# Altium schematic symbol library kmilo17pet-TI_RS232.SchLib: 1272 symbols (part 25 of 37)
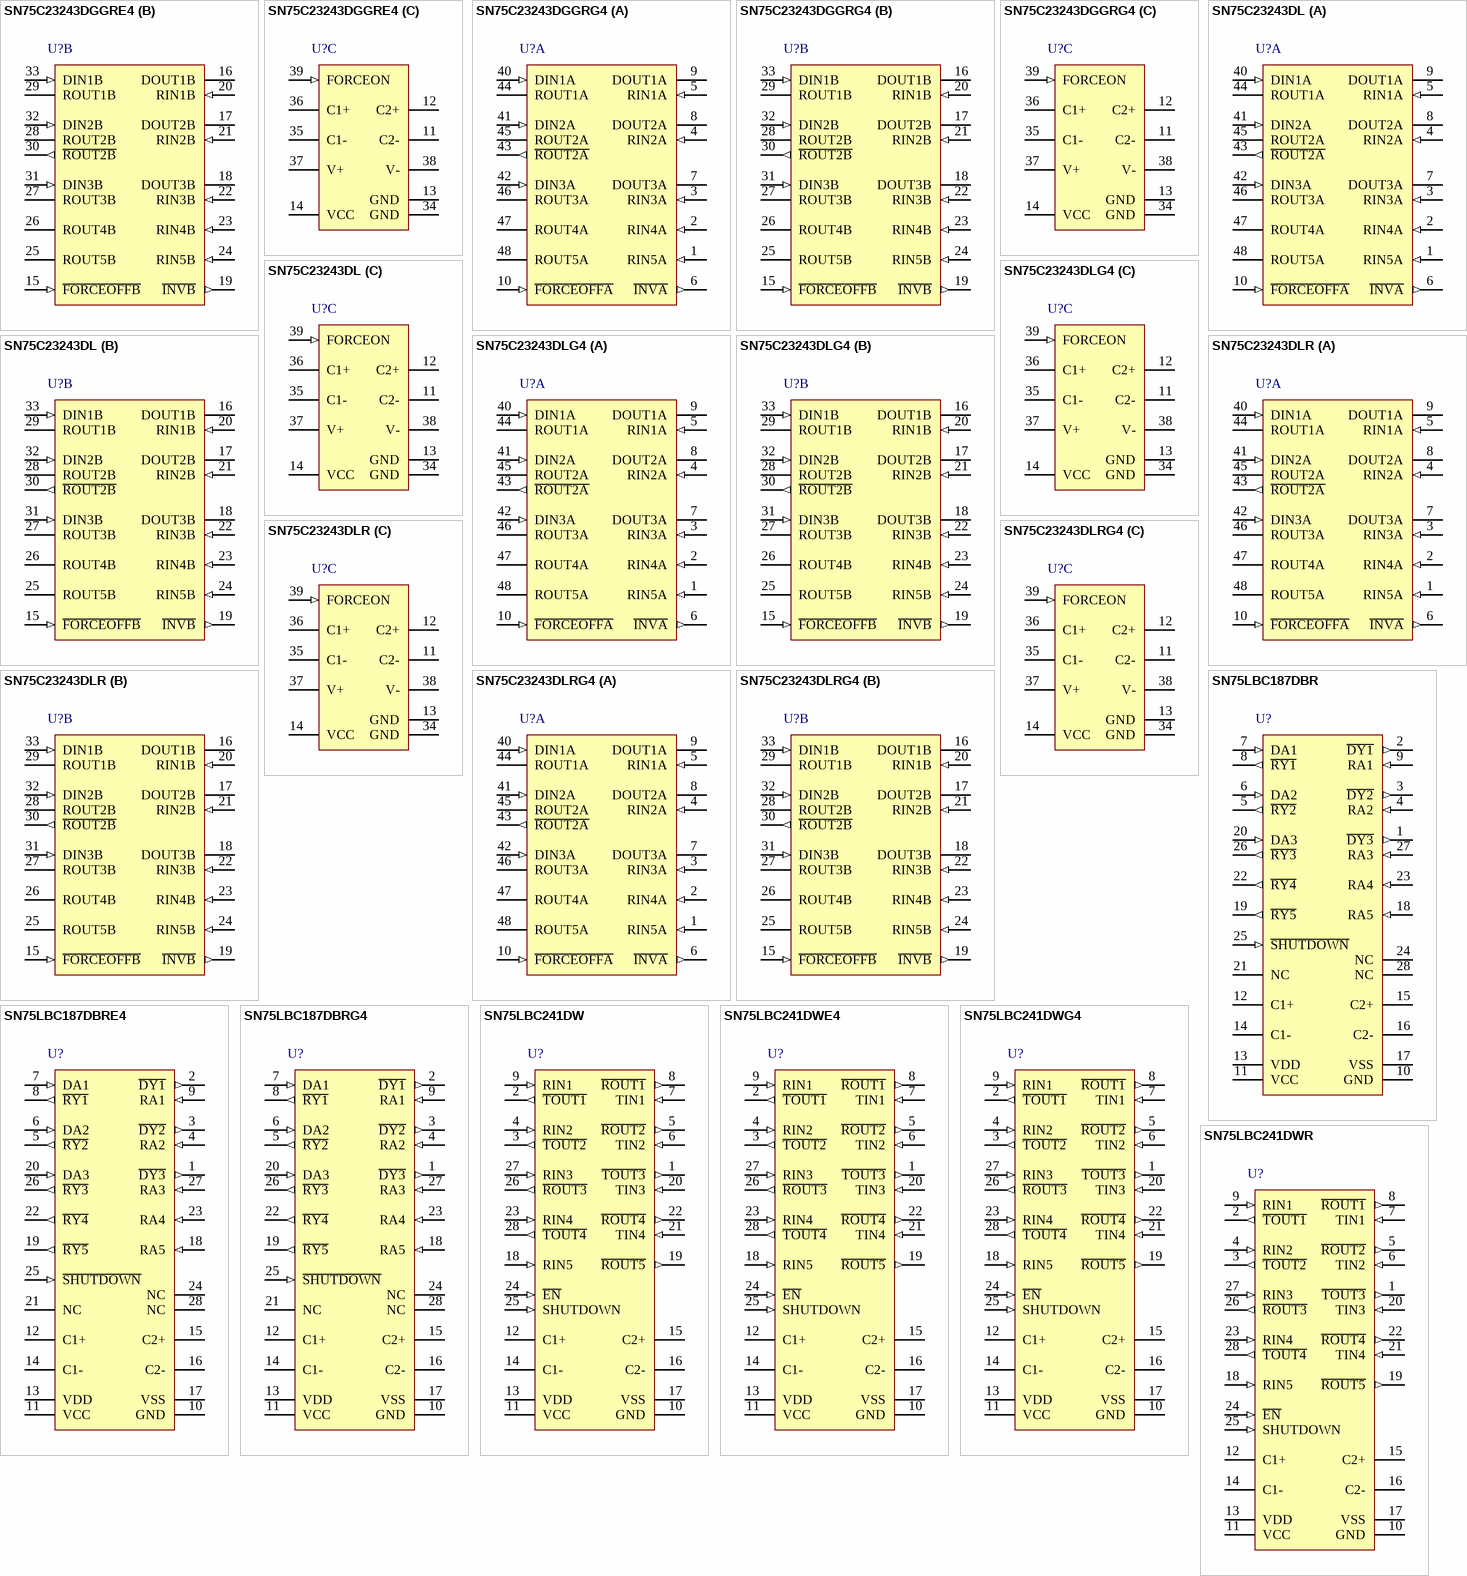
[diagram p78: symbols SN75C23243DGGRE4 to SN75LBC241DWR]

## SN75C23243DLG4
designator U?
3-V to 5.5-V Dual RS-232 Port, 0 to 70 degC, 48-Pin  SSOP (DL),  Green (RoHS & no Sb/Br); Drivers Per Package: 6; Receivers Per Package: 10; Supply Voltage(s)(V): 3.3 or 5.0; ESD HBM(kV): +/-15; ICC(Max)(mA): 2; Single Supply: TRUE; DatasheetVersion: SLLS513A; PackageVersion: revE, Dec-2001; PackageReference: DL48; PackageDescription: 48-Pin Plastic Small Outline Package 0.635 mm Pitch; SubFamily: RS-232; RS-232: TRUE; ComponentLink1Description: Manufacturer URL; ComponentLink1URL: www.ti.com; ComponentLink2Description: Datasheet; ComponentLink2URL: http://www.ti.com/general/docs/lit/getliterature.tsp?genericPartNumber=SN75C23243&fileType=pdf; ComponentLink3Description: Package Specification; ComponentLink3URL: http://www.ti.com/litv/pdf/msso001c
footprint TI-DL48_N (SOP, 48-Leads, Body 15.9x7.5mm, Pitch 0.635mm, IPC Medium Density)
footprint TI-DL48_L (SOP, 48-Leads, Body 15.9x7.5mm, Pitch 0.635mm, IPC High Density)
footprint TI-DL48_M (SOP, 48-Leads, Body 15.9x7.5mm, Pitch 0.635mm, IPC Low Density)
part A pins: 1 RIN5A (in), 2 RIN4A (in), 3 RIN3A (in), 4 RIN2A (in), 5 RIN1A (in), 6 ~{INVA} (out), 7 DOUT3A (hiz), 8 DOUT2A (hiz), 9 DOUT1A (hiz), 10 ~{FORCEOFFA} (in), 40 DIN1A (in), 41 DIN2A (in), 42 DIN3A (in), 43 ~{ROUT2A} (out), 44 ROUT1A (hiz), 45 ROUT2A (hiz), 46 ROUT3A (hiz), 47 ROUT4A (hiz), 48 ROUT5A (hiz)
part B pins: 15 ~{FORCEOFFB} (in), 16 DOUT1B (hiz), 17 DOUT2B (hiz), 18 DOUT3B (hiz), 19 ~{INVB} (out), 20 RIN1B (in), 21 RIN2B (in), 22 RIN3B (in), 23 RIN4B (in), 24 RIN5B (in), 25 ROUT5B (hiz), 26 ROUT4B (hiz), 27 ROUT3B (hiz), 28 ROUT2B (hiz), 29 ROUT1B (hiz), 30 ~{ROUT2B} (out), 31 DIN3B (in), 32 DIN2B (in), 33 DIN1B (in)
part C pins: 11 C2-, 12 C2+, 13 GND (power), 14 VCC (power), 34 GND (power), 35 C1-, 36 C1+, 37 V+ (power), 38 V- (power), 39 FORCEON (in)

## SN75C23243DLR
designator U?
3-V to 5.5-V Dual RS-232 Port, 0 to 70 degC, 48-Pin  SSOP (DL),  Green (RoHS & no Sb/Br); Drivers Per Package: 6; Receivers Per Package: 10; Supply Voltage(s)(V): 3.3 or 5.0; ESD HBM(kV): +/-15; ICC(Max)(mA): 2; Single Supply: TRUE; DatasheetVersion: SLLS513A; PackageVersion: revE, Dec-2001; PackageReference: DL48; PackageDescription: 48-Pin Plastic Small Outline Package 0.635 mm Pitch; SubFamily: RS-232; RS-232: TRUE; ComponentLink1Description: Manufacturer URL; ComponentLink1URL: www.ti.com; ComponentLink2Description: Datasheet; ComponentLink2URL: http://www.ti.com/general/docs/lit/getliterature.tsp?genericPartNumber=SN75C23243&fileType=pdf; ComponentLink3Description: Package Specification; ComponentLink3URL: http://www.ti.com/litv/pdf/msso001c
footprint TI-DL48_N (SOP, 48-Leads, Body 15.9x7.5mm, Pitch 0.635mm, IPC Medium Density)
footprint TI-DL48_L (SOP, 48-Leads, Body 15.9x7.5mm, Pitch 0.635mm, IPC High Density)
footprint TI-DL48_M (SOP, 48-Leads, Body 15.9x7.5mm, Pitch 0.635mm, IPC Low Density)
part A pins: 1 RIN5A (in), 2 RIN4A (in), 3 RIN3A (in), 4 RIN2A (in), 5 RIN1A (in), 6 ~{INVA} (out), 7 DOUT3A (hiz), 8 DOUT2A (hiz), 9 DOUT1A (hiz), 10 ~{FORCEOFFA} (in), 40 DIN1A (in), 41 DIN2A (in), 42 DIN3A (in), 43 ~{ROUT2A} (out), 44 ROUT1A (hiz), 45 ROUT2A (hiz), 46 ROUT3A (hiz), 47 ROUT4A (hiz), 48 ROUT5A (hiz)
part B pins: 15 ~{FORCEOFFB} (in), 16 DOUT1B (hiz), 17 DOUT2B (hiz), 18 DOUT3B (hiz), 19 ~{INVB} (out), 20 RIN1B (in), 21 RIN2B (in), 22 RIN3B (in), 23 RIN4B (in), 24 RIN5B (in), 25 ROUT5B (hiz), 26 ROUT4B (hiz), 27 ROUT3B (hiz), 28 ROUT2B (hiz), 29 ROUT1B (hiz), 30 ~{ROUT2B} (out), 31 DIN3B (in), 32 DIN2B (in), 33 DIN1B (in)
part C pins: 11 C2-, 12 C2+, 13 GND (power), 14 VCC (power), 34 GND (power), 35 C1-, 36 C1+, 37 V+ (power), 38 V- (power), 39 FORCEON (in)

## SN75C23243DLRG4
designator U?
3-V to 5.5-V Dual RS-232 Port, 0 to 70 degC, 48-Pin  SSOP (DL),  Green (RoHS & no Sb/Br); Drivers Per Package: 6; Receivers Per Package: 10; Supply Voltage(s)(V): 3.3 or 5.0; ESD HBM(kV): +/-15; ICC(Max)(mA): 2; Single Supply: TRUE; DatasheetVersion: SLLS513A; PackageVersion: revE, Dec-2001; PackageReference: DL48; PackageDescription: 48-Pin Plastic Small Outline Package 0.635 mm Pitch; SubFamily: RS-232; RS-232: TRUE; ComponentLink1Description: Manufacturer URL; ComponentLink1URL: www.ti.com; ComponentLink2Description: Datasheet; ComponentLink2URL: http://www.ti.com/general/docs/lit/getliterature.tsp?genericPartNumber=SN75C23243&fileType=pdf; ComponentLink3Description: Package Specification; ComponentLink3URL: http://www.ti.com/litv/pdf/msso001c
footprint TI-DL48_N (SOP, 48-Leads, Body 15.9x7.5mm, Pitch 0.635mm, IPC Medium Density)
footprint TI-DL48_L (SOP, 48-Leads, Body 15.9x7.5mm, Pitch 0.635mm, IPC High Density)
footprint TI-DL48_M (SOP, 48-Leads, Body 15.9x7.5mm, Pitch 0.635mm, IPC Low Density)
part A pins: 1 RIN5A (in), 2 RIN4A (in), 3 RIN3A (in), 4 RIN2A (in), 5 RIN1A (in), 6 ~{INVA} (out), 7 DOUT3A (hiz), 8 DOUT2A (hiz), 9 DOUT1A (hiz), 10 ~{FORCEOFFA} (in), 40 DIN1A (in), 41 DIN2A (in), 42 DIN3A (in), 43 ~{ROUT2A} (out), 44 ROUT1A (hiz), 45 ROUT2A (hiz), 46 ROUT3A (hiz), 47 ROUT4A (hiz), 48 ROUT5A (hiz)
part B pins: 15 ~{FORCEOFFB} (in), 16 DOUT1B (hiz), 17 DOUT2B (hiz), 18 DOUT3B (hiz), 19 ~{INVB} (out), 20 RIN1B (in), 21 RIN2B (in), 22 RIN3B (in), 23 RIN4B (in), 24 RIN5B (in), 25 ROUT5B (hiz), 26 ROUT4B (hiz), 27 ROUT3B (hiz), 28 ROUT2B (hiz), 29 ROUT1B (hiz), 30 ~{ROUT2B} (out), 31 DIN3B (in), 32 DIN2B (in), 33 DIN1B (in)
part C pins: 11 C2-, 12 C2+, 13 GND (power), 14 VCC (power), 34 GND (power), 35 C1-, 36 C1+, 37 V+ (power), 38 V- (power), 39 FORCEON (in)

## SN75LBC187DBR
designator U?
Multichannel EIA-232 Driver / Receiver with Charge Pump, 0 to 70 degC, 28-Pin SSOP (DB), Green (RoHS & no Sb/Br); SubFamily: RS-232; Drivers Per Package: 3; Receivers Per Package: 5; ICC(Max)(mA): 30; Single Supply: TRUE; DatasheetVersion: SLLS130C; PackageVersion: revE, Dec-2001; PackageReference: DB28; PackageDescription: 28-Pin Plastic Small Outline Package, 10.2 x 5.3 mm Body, 0.65 mm Pitch; Supply Voltage(s)(V): 5; RS-232: TRUE; ComponentLink1Description: Manufacturer URL; ComponentLink1URL: www.ti.com; ComponentLink2Description: Datasheet; ComponentLink2URL: http://www.ti.com/general/docs/lit/getliterature.tsp?genericPartNumber=SN75LBC187&fileType=pdf; ComponentLink3Description: Package Specification; ComponentLink3URL: http://www.ti.com/litv/pdf/msso002e
footprint TI-DB28_N (SOP, 28-Leads, Body 10.2x5.3mm, Pitch 0.65mm, IPC Medium Density)
footprint TI-DB28_L (SOP, 28-Leads, Body 10.2x5.3mm, Pitch 0.65mm, IPC High Density)
footprint TI-DB28_M (SOP, 28-Leads, Body 10.2x5.3mm, Pitch 0.65mm, IPC Low Density)
pins: 1 ~{DY3} (out), 2 ~{DY1} (out), 3 ~{DY2} (out), 4 RA2 (in), 5 ~{RY2} (out), 6 DA2 (in), 7 DA1 (in), 8 ~{RY1} (out), 9 RA1 (in), 10 GND (power), 11 VCC (power), 12 C1+, 13 VDD (power), 14 C1-, 15 C2+, 16 C2-, 17 VSS (power), 18 RA5 (in), 19 ~{RY5} (out), 20 DA3 (in), 21 NC, 22 ~{RY4} (out), 23 RA4 (in), 24 NC, 25 ~{SHUTDOWN} (in), 26 ~{RY3} (out), 27 RA3 (in), 28 NC

## SN75LBC187DBRE4
designator U?
Multichannel EIA-232 Driver / Receiver with Charge Pump, 0 to 70 degC, 28-Pin SSOP (DB), Green (RoHS & no Sb/Br); SubFamily: RS-232; Drivers Per Package: 3; Receivers Per Package: 5; ICC(Max)(mA): 30; Single Supply: TRUE; DatasheetVersion: SLLS130C; PackageVersion: revE, Dec-2001; PackageReference: DB28; PackageDescription: 28-Pin Plastic Small Outline Package, 10.2 x 5.3 mm Body, 0.65 mm Pitch; Supply Voltage(s)(V): 5; RS-232: TRUE; ComponentLink1Description: Manufacturer URL; ComponentLink1URL: www.ti.com; ComponentLink2Description: Datasheet; ComponentLink2URL: http://www.ti.com/general/docs/lit/getliterature.tsp?genericPartNumber=SN75LBC187&fileType=pdf; ComponentLink3Description: Package Specification; ComponentLink3URL: http://www.ti.com/litv/pdf/msso002e
footprint TI-DB28_N (SOP, 28-Leads, Body 10.2x5.3mm, Pitch 0.65mm, IPC Medium Density)
footprint TI-DB28_L (SOP, 28-Leads, Body 10.2x5.3mm, Pitch 0.65mm, IPC High Density)
footprint TI-DB28_M (SOP, 28-Leads, Body 10.2x5.3mm, Pitch 0.65mm, IPC Low Density)
pins: 1 ~{DY3} (out), 2 ~{DY1} (out), 3 ~{DY2} (out), 4 RA2 (in), 5 ~{RY2} (out), 6 DA2 (in), 7 DA1 (in), 8 ~{RY1} (out), 9 RA1 (in), 10 GND (power), 11 VCC (power), 12 C1+, 13 VDD (power), 14 C1-, 15 C2+, 16 C2-, 17 VSS (power), 18 RA5 (in), 19 ~{RY5} (out), 20 DA3 (in), 21 NC, 22 ~{RY4} (out), 23 RA4 (in), 24 NC, 25 ~{SHUTDOWN} (in), 26 ~{RY3} (out), 27 RA3 (in), 28 NC

## SN75LBC187DBRG4
designator U?
Multichannel EIA-232 Driver / Receiver with Charge Pump, 0 to 70 degC, 28-Pin SSOP (DB), Green (RoHS & no Sb/Br); SubFamily: RS-232; Drivers Per Package: 3; Receivers Per Package: 5; ICC(Max)(mA): 30; Single Supply: TRUE; DatasheetVersion: SLLS130C; PackageVersion: revE, Dec-2001; PackageReference: DB28; PackageDescription: 28-Pin Plastic Small Outline Package, 10.2 x 5.3 mm Body, 0.65 mm Pitch; Supply Voltage(s)(V): 5; RS-232: TRUE; ComponentLink1Description: Manufacturer URL; ComponentLink1URL: www.ti.com; ComponentLink2Description: Datasheet; ComponentLink2URL: http://www.ti.com/general/docs/lit/getliterature.tsp?genericPartNumber=SN75LBC187&fileType=pdf; ComponentLink3Description: Package Specification; ComponentLink3URL: http://www.ti.com/litv/pdf/msso002e
footprint TI-DB28_N (SOP, 28-Leads, Body 10.2x5.3mm, Pitch 0.65mm, IPC Medium Density)
footprint TI-DB28_L (SOP, 28-Leads, Body 10.2x5.3mm, Pitch 0.65mm, IPC High Density)
footprint TI-DB28_M (SOP, 28-Leads, Body 10.2x5.3mm, Pitch 0.65mm, IPC Low Density)
pins: 1 ~{DY3} (out), 2 ~{DY1} (out), 3 ~{DY2} (out), 4 RA2 (in), 5 ~{RY2} (out), 6 DA2 (in), 7 DA1 (in), 8 ~{RY1} (out), 9 RA1 (in), 10 GND (power), 11 VCC (power), 12 C1+, 13 VDD (power), 14 C1-, 15 C2+, 16 C2-, 17 VSS (power), 18 RA5 (in), 19 ~{RY5} (out), 20 DA3 (in), 21 NC, 22 ~{RY4} (out), 23 RA4 (in), 24 NC, 25 ~{SHUTDOWN} (in), 26 ~{RY3} (out), 27 RA3 (in), 28 NC

## SN75LBC241DW
designator U?
Low-Power LinBiCMOS TM  Multiple Driver and Receiver, 0 to 70 degC, 28-Pin SOIC (DW), Green (RoHS & no Sb/Br); SubFamily: RS-232; Drivers Per Package: 4; Receivers Per Package: 5; ICC(Max)(mA): 8; Single Supply: TRUE; DatasheetVersion: SLLS137F; PackageVersion: revG, Jan-2011; PackageReference: DW28; PackageDescription: 28-Pin Plastic Small Outline Integrated Circuit, 17.9 x 7.5 mm, Pitch 1.27 mm Pitch; Supply Voltage(s)(V): 5; RS-232: TRUE; ComponentLink1Description: Manufacturer URL; ComponentLink1URL: www.ti.com; ComponentLink2Description: Datasheet; ComponentLink2URL: http://www.ti.com/general/docs/lit/getliterature.tsp?genericPartNumber=SN75LBC241&fileType=pdf; ComponentLink3Description: Package Specification; ComponentLink3URL: http://www.ti.com/litv/pdf/mpds175a
footprint TI-DW28_N (SOIC, 28-Leads, Body 17.9x7.5mm, Pitch 1.27mm, IPC Medium Density)
footprint TI-DW28_L (SOIC, 28-Leads, Body 17.9x7.5mm, Pitch 1.27mm, IPC High Density)
footprint TI-DW28_M (SOIC, 28-Leads, Body 17.9x7.5mm, Pitch 1.27mm, IPC Low Density)
pins: 1 ~{TOUT3} (out), 2 ~{TOUT1} (out), 3 ~{TOUT2} (out), 4 RIN2 (in), 5 ~{ROUT2} (out), 6 TIN2 (in), 7 TIN1 (in), 8 ~{ROUT1} (out), 9 RIN1 (in), 10 GND (power), 11 VCC (power), 12 C1+, 13 VDD (power), 14 C1-, 15 C2+, 16 C2-, 17 VSS (power), 18 RIN5 (in), 19 ~{ROUT5} (out), 20 TIN3 (in), 21 TIN4 (in), 22 ~{ROUT4} (out), 23 RIN4 (in), 24 ~{EN} (in), 25 SHUTDOWN (in), 26 ~{ROUT3} (out), 27 RIN3 (in), 28 ~{TOUT4} (out)

## SN75LBC241DWE4
designator U?
Low-Power LinBiCMOS TM  Multiple Driver and Receiver, 0 to 70 degC, 28-Pin SOIC (DW), Green (RoHS & no Sb/Br); SubFamily: RS-232; Drivers Per Package: 4; Receivers Per Package: 5; ICC(Max)(mA): 8; Single Supply: TRUE; DatasheetVersion: SLLS137F; PackageVersion: revG, Jan-2011; PackageReference: DW28; PackageDescription: 28-Pin Plastic Small Outline Integrated Circuit, 17.9 x 7.5 mm, Pitch 1.27 mm Pitch; Supply Voltage(s)(V): 5; RS-232: TRUE; ComponentLink1Description: Manufacturer URL; ComponentLink1URL: www.ti.com; ComponentLink2Description: Datasheet; ComponentLink2URL: http://www.ti.com/general/docs/lit/getliterature.tsp?genericPartNumber=SN75LBC241&fileType=pdf; ComponentLink3Description: Package Specification; ComponentLink3URL: http://www.ti.com/litv/pdf/mpds175a
footprint TI-DW28_N (SOIC, 28-Leads, Body 17.9x7.5mm, Pitch 1.27mm, IPC Medium Density)
footprint TI-DW28_L (SOIC, 28-Leads, Body 17.9x7.5mm, Pitch 1.27mm, IPC High Density)
footprint TI-DW28_M (SOIC, 28-Leads, Body 17.9x7.5mm, Pitch 1.27mm, IPC Low Density)
pins: 1 ~{TOUT3} (out), 2 ~{TOUT1} (out), 3 ~{TOUT2} (out), 4 RIN2 (in), 5 ~{ROUT2} (out), 6 TIN2 (in), 7 TIN1 (in), 8 ~{ROUT1} (out), 9 RIN1 (in), 10 GND (power), 11 VCC (power), 12 C1+, 13 VDD (power), 14 C1-, 15 C2+, 16 C2-, 17 VSS (power), 18 RIN5 (in), 19 ~{ROUT5} (out), 20 TIN3 (in), 21 TIN4 (in), 22 ~{ROUT4} (out), 23 RIN4 (in), 24 ~{EN} (in), 25 SHUTDOWN (in), 26 ~{ROUT3} (out), 27 RIN3 (in), 28 ~{TOUT4} (out)

## SN75LBC241DWG4
designator U?
Low-Power LinBiCMOS TM  Multiple Driver and Receiver, 0 to 70 degC, 28-Pin SOIC (DW), Green (RoHS & no Sb/Br); SubFamily: RS-232; Drivers Per Package: 4; Receivers Per Package: 5; ICC(Max)(mA): 8; Single Supply: TRUE; DatasheetVersion: SLLS137F; PackageVersion: revG, Jan-2011; PackageReference: DW28; PackageDescription: 28-Pin Plastic Small Outline Integrated Circuit, 17.9 x 7.5 mm, Pitch 1.27 mm Pitch; Supply Voltage(s)(V): 5; RS-232: TRUE; ComponentLink1Description: Manufacturer URL; ComponentLink1URL: www.ti.com; ComponentLink2Description: Datasheet; ComponentLink2URL: http://www.ti.com/general/docs/lit/getliterature.tsp?genericPartNumber=SN75LBC241&fileType=pdf; ComponentLink3Description: Package Specification; ComponentLink3URL: http://www.ti.com/litv/pdf/mpds175a
footprint TI-DW28_N (SOIC, 28-Leads, Body 17.9x7.5mm, Pitch 1.27mm, IPC Medium Density)
footprint TI-DW28_L (SOIC, 28-Leads, Body 17.9x7.5mm, Pitch 1.27mm, IPC High Density)
footprint TI-DW28_M (SOIC, 28-Leads, Body 17.9x7.5mm, Pitch 1.27mm, IPC Low Density)
pins: 1 ~{TOUT3} (out), 2 ~{TOUT1} (out), 3 ~{TOUT2} (out), 4 RIN2 (in), 5 ~{ROUT2} (out), 6 TIN2 (in), 7 TIN1 (in), 8 ~{ROUT1} (out), 9 RIN1 (in), 10 GND (power), 11 VCC (power), 12 C1+, 13 VDD (power), 14 C1-, 15 C2+, 16 C2-, 17 VSS (power), 18 RIN5 (in), 19 ~{ROUT5} (out), 20 TIN3 (in), 21 TIN4 (in), 22 ~{ROUT4} (out), 23 RIN4 (in), 24 ~{EN} (in), 25 SHUTDOWN (in), 26 ~{ROUT3} (out), 27 RIN3 (in), 28 ~{TOUT4} (out)

## SN75LBC241DWR
designator U?
Low-Power LinBiCMOS TM  Multiple Driver and Receiver, 0 to 70 degC, 28-Pin SOIC (DW), Green (RoHS & no Sb/Br); SubFamily: RS-232; Drivers Per Package: 4; Receivers Per Package: 5; ICC(Max)(mA): 8; Single Supply: TRUE; DatasheetVersion: SLLS137F; PackageVersion: revG, Jan-2011; PackageReference: DW28; PackageDescription: 28-Pin Plastic Small Outline Integrated Circuit, 17.9 x 7.5 mm, Pitch 1.27 mm Pitch; Supply Voltage(s)(V): 5; RS-232: TRUE; ComponentLink1Description: Manufacturer URL; ComponentLink1URL: www.ti.com; ComponentLink2Description: Datasheet; ComponentLink2URL: http://www.ti.com/general/docs/lit/getliterature.tsp?genericPartNumber=SN75LBC241&fileType=pdf; ComponentLink3Description: Package Specification; ComponentLink3URL: http://www.ti.com/litv/pdf/mpds175a
footprint TI-DW28_N (SOIC, 28-Leads, Body 17.9x7.5mm, Pitch 1.27mm, IPC Medium Density)
footprint TI-DW28_L (SOIC, 28-Leads, Body 17.9x7.5mm, Pitch 1.27mm, IPC High Density)
footprint TI-DW28_M (SOIC, 28-Leads, Body 17.9x7.5mm, Pitch 1.27mm, IPC Low Density)
pins: 1 ~{TOUT3} (out), 2 ~{TOUT1} (out), 3 ~{TOUT2} (out), 4 RIN2 (in), 5 ~{ROUT2} (out), 6 TIN2 (in), 7 TIN1 (in), 8 ~{ROUT1} (out), 9 RIN1 (in), 10 GND (power), 11 VCC (power), 12 C1+, 13 VDD (power), 14 C1-, 15 C2+, 16 C2-, 17 VSS (power), 18 RIN5 (in), 19 ~{ROUT5} (out), 20 TIN3 (in), 21 TIN4 (in), 22 ~{ROUT4} (out), 23 RIN4 (in), 24 ~{EN} (in), 25 SHUTDOWN (in), 26 ~{ROUT3} (out), 27 RIN3 (in), 28 ~{TOUT4} (out)

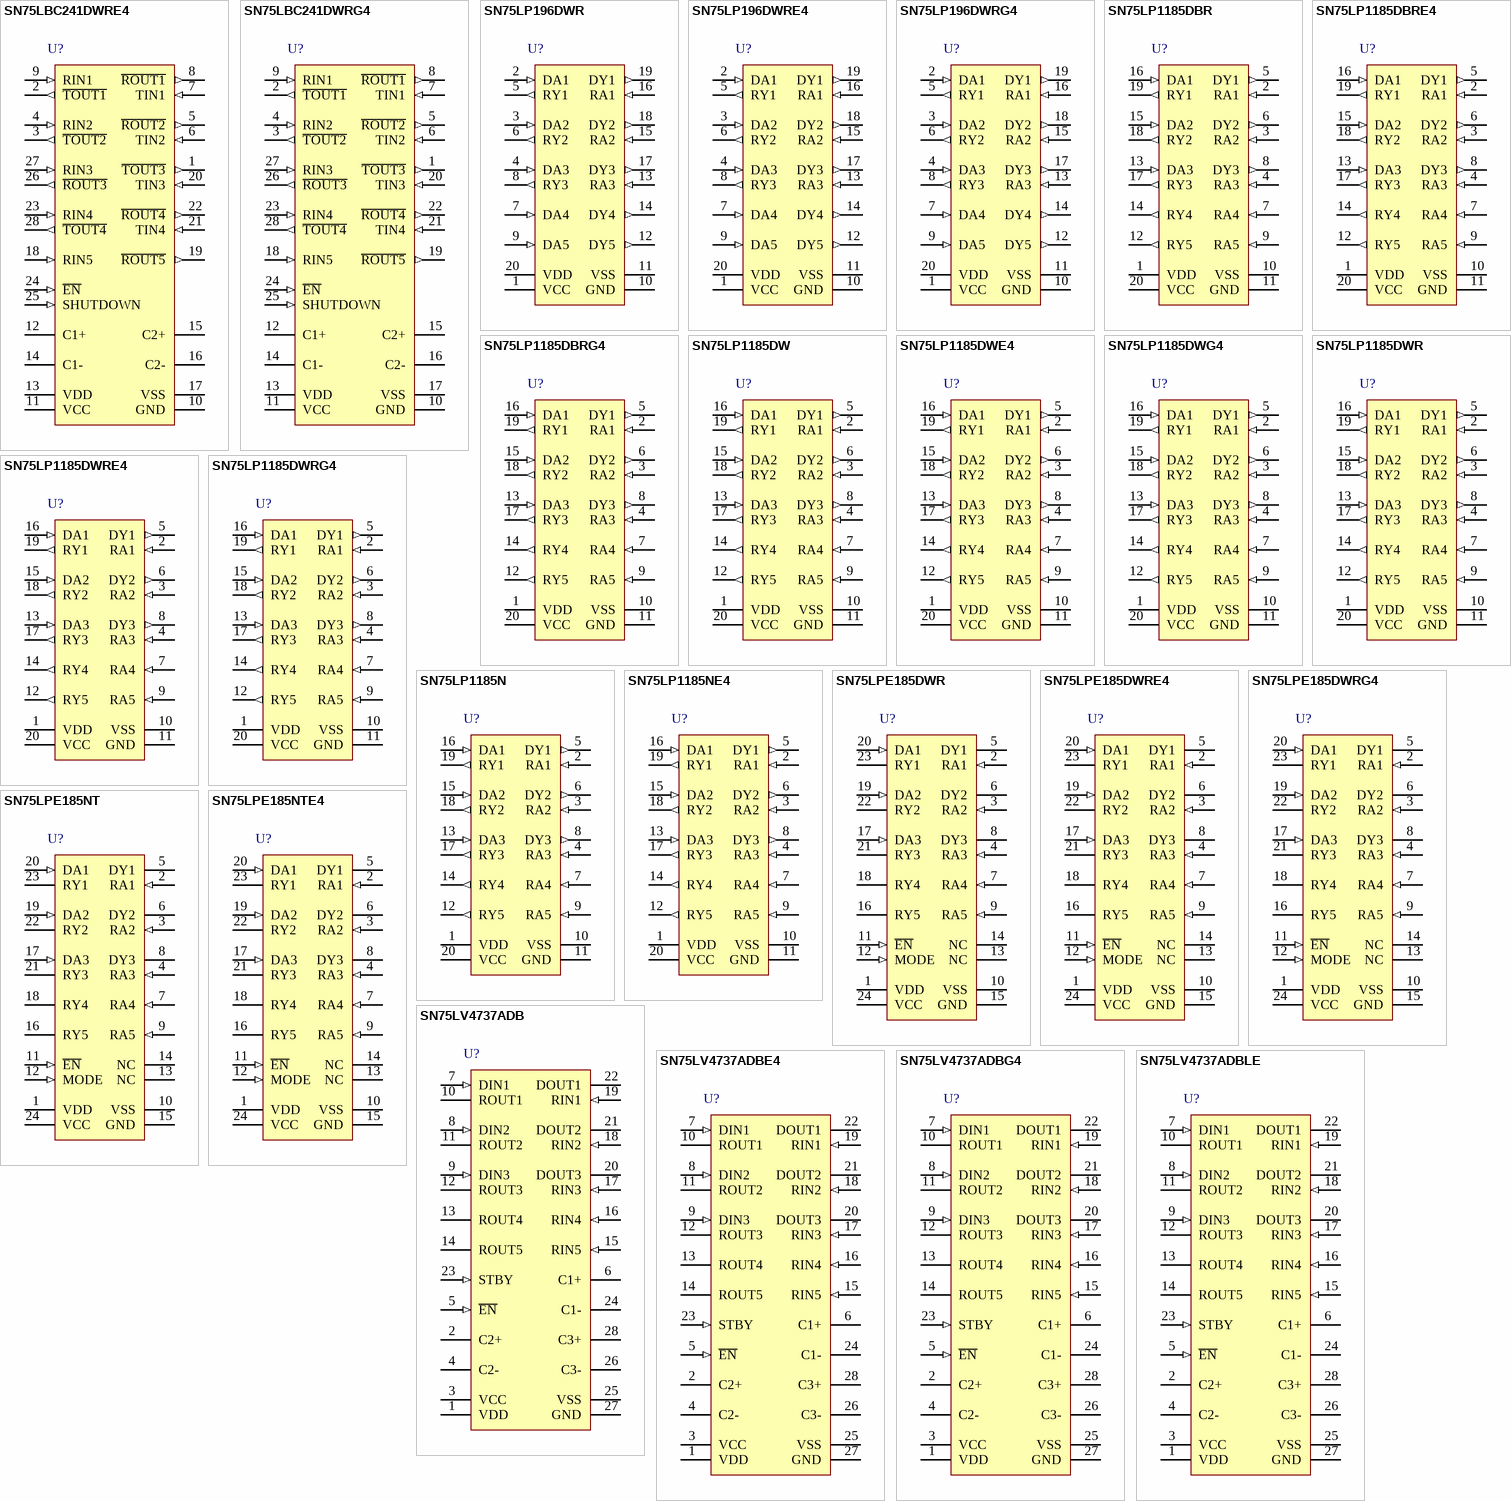
[diagram p37: symbols SN75LBC241DWRE4 to SN75LV4737ADBLE]

## SN75LBC241DWRE4
designator U?
Low-Power LinBiCMOS TM  Multiple Driver and Receiver, 0 to 70 degC, 28-Pin SOIC (DW), Green (RoHS & no Sb/Br); SubFamily: RS-232; Drivers Per Package: 4; Receivers Per Package: 5; ICC(Max)(mA): 8; Single Supply: TRUE; DatasheetVersion: SLLS137F; PackageVersion: revG, Jan-2011; PackageReference: DW28; PackageDescription: 28-Pin Plastic Small Outline Integrated Circuit, 17.9 x 7.5 mm, Pitch 1.27 mm Pitch; Supply Voltage(s)(V): 5; RS-232: TRUE; ComponentLink1Description: Manufacturer URL; ComponentLink1URL: www.ti.com; ComponentLink2Description: Datasheet; ComponentLink2URL: http://www.ti.com/general/docs/lit/getliterature.tsp?genericPartNumber=SN75LBC241&fileType=pdf; ComponentLink3Description: Package Specification; ComponentLink3URL: http://www.ti.com/litv/pdf/mpds175a
footprint TI-DW28_N (SOIC, 28-Leads, Body 17.9x7.5mm, Pitch 1.27mm, IPC Medium Density)
footprint TI-DW28_L (SOIC, 28-Leads, Body 17.9x7.5mm, Pitch 1.27mm, IPC High Density)
footprint TI-DW28_M (SOIC, 28-Leads, Body 17.9x7.5mm, Pitch 1.27mm, IPC Low Density)
pins: 1 ~{TOUT3} (out), 2 ~{TOUT1} (out), 3 ~{TOUT2} (out), 4 RIN2 (in), 5 ~{ROUT2} (out), 6 TIN2 (in), 7 TIN1 (in), 8 ~{ROUT1} (out), 9 RIN1 (in), 10 GND (power), 11 VCC (power), 12 C1+, 13 VDD (power), 14 C1-, 15 C2+, 16 C2-, 17 VSS (power), 18 RIN5 (in), 19 ~{ROUT5} (out), 20 TIN3 (in), 21 TIN4 (in), 22 ~{ROUT4} (out), 23 RIN4 (in), 24 ~{EN} (in), 25 SHUTDOWN (in), 26 ~{ROUT3} (out), 27 RIN3 (in), 28 ~{TOUT4} (out)

## SN75LBC241DWRG4
designator U?
Low-Power LinBiCMOS TM  Multiple Driver and Receiver, 0 to 70 degC, 28-Pin SOIC (DW), Green (RoHS & no Sb/Br); SubFamily: RS-232; Drivers Per Package: 4; Receivers Per Package: 5; ICC(Max)(mA): 8; Single Supply: TRUE; DatasheetVersion: SLLS137F; PackageVersion: revG, Jan-2011; PackageReference: DW28; PackageDescription: 28-Pin Plastic Small Outline Integrated Circuit, 17.9 x 7.5 mm, Pitch 1.27 mm Pitch; Supply Voltage(s)(V): 5; RS-232: TRUE; ComponentLink1Description: Manufacturer URL; ComponentLink1URL: www.ti.com; ComponentLink2Description: Datasheet; ComponentLink2URL: http://www.ti.com/general/docs/lit/getliterature.tsp?genericPartNumber=SN75LBC241&fileType=pdf; ComponentLink3Description: Package Specification; ComponentLink3URL: http://www.ti.com/litv/pdf/mpds175a
footprint TI-DW28_N (SOIC, 28-Leads, Body 17.9x7.5mm, Pitch 1.27mm, IPC Medium Density)
footprint TI-DW28_L (SOIC, 28-Leads, Body 17.9x7.5mm, Pitch 1.27mm, IPC High Density)
footprint TI-DW28_M (SOIC, 28-Leads, Body 17.9x7.5mm, Pitch 1.27mm, IPC Low Density)
pins: 1 ~{TOUT3} (out), 2 ~{TOUT1} (out), 3 ~{TOUT2} (out), 4 RIN2 (in), 5 ~{ROUT2} (out), 6 TIN2 (in), 7 TIN1 (in), 8 ~{ROUT1} (out), 9 RIN1 (in), 10 GND (power), 11 VCC (power), 12 C1+, 13 VDD (power), 14 C1-, 15 C2+, 16 C2-, 17 VSS (power), 18 RIN5 (in), 19 ~{ROUT5} (out), 20 TIN3 (in), 21 TIN4 (in), 22 ~{ROUT4} (out), 23 RIN4 (in), 24 ~{EN} (in), 25 SHUTDOWN (in), 26 ~{ROUT3} (out), 27 RIN3 (in), 28 ~{TOUT4} (out)

## SN75LP196DWR
designator U?
Low-Power Multiple RS-232 Driver and Receiver, 0 to 70 degC, 20-Pin  SOIC (DW),  Green (RoHS & no Sb/Br); Drivers Per Package: 5; Receivers Per Package: 3; Supply Voltage(s)(V): +/-12.0 & 5.0; ESD HBM(kV): +/-15; ICC(Max)(mA): +/-0.8 & 1; RS-232: TRUE; DatasheetVersion: SLLS294A; PackageVersion: revG, Jan-2011; PackageReference: DW20; PackageDescription: 20-Pin Plastic Small Outline Integrated Circuit, 12.8 x 7.5 mm, Pitch 1.27 mm Pitch; SubFamily: RS-232; ComponentLink1Description: Manufacturer URL; ComponentLink1URL: www.ti.com; ComponentLink2Description: Datasheet; ComponentLink2URL: http://www.ti.com/general/docs/lit/getliterature.tsp?genericPartNumber=SN75LP196&fileType=pdf; ComponentLink3Description: Package Specification; ComponentLink3URL: http://www.ti.com/litv/pdf/mpds173a
footprint TI-DW20_N (SOIC, 20-Leads, Body 12.8x7.5mm, Pitch 1.27mm, IPC Medium Density)
footprint TI-DW20_L (SOIC, 20-Leads, Body 12.8x7.5mm, Pitch 1.27mm, IPC High Density)
footprint TI-DW20_M (SOIC, 20-Leads, Body 12.8x7.5mm, Pitch 1.27mm, IPC Low Density)
pins: 1 VCC (power), 2 DA1 (in), 3 DA2 (in), 4 DA3 (in), 5 RY1 (out), 6 RY2 (out), 7 DA4 (in), 8 RY3 (out), 9 DA5 (in), 10 GND (power), 11 VSS (power), 12 DY5 (out), 13 RA3 (in), 14 DY4 (out), 15 RA2 (in), 16 RA1 (in), 17 DY3 (out), 18 DY2 (out), 19 DY1 (out), 20 VDD (power)

## SN75LP196DWRE4
designator U?
Low-Power Multiple RS-232 Driver and Receiver, 0 to 70 degC, 20-Pin  SOIC (DW),  Green (RoHS & no Sb/Br); Drivers Per Package: 5; Receivers Per Package: 3; Supply Voltage(s)(V): +/-12.0 & 5.0; ESD HBM(kV): +/-15; ICC(Max)(mA): +/-0.8 & 1; RS-232: TRUE; DatasheetVersion: SLLS294A; PackageVersion: revG, Jan-2011; PackageReference: DW20; PackageDescription: 20-Pin Plastic Small Outline Integrated Circuit, 12.8 x 7.5 mm, Pitch 1.27 mm Pitch; SubFamily: RS-232; ComponentLink1Description: Manufacturer URL; ComponentLink1URL: www.ti.com; ComponentLink2Description: Datasheet; ComponentLink2URL: http://www.ti.com/general/docs/lit/getliterature.tsp?genericPartNumber=SN75LP196&fileType=pdf; ComponentLink3Description: Package Specification; ComponentLink3URL: http://www.ti.com/litv/pdf/mpds173a
footprint TI-DW20_N (SOIC, 20-Leads, Body 12.8x7.5mm, Pitch 1.27mm, IPC Medium Density)
footprint TI-DW20_L (SOIC, 20-Leads, Body 12.8x7.5mm, Pitch 1.27mm, IPC High Density)
footprint TI-DW20_M (SOIC, 20-Leads, Body 12.8x7.5mm, Pitch 1.27mm, IPC Low Density)
pins: 1 VCC (power), 2 DA1 (in), 3 DA2 (in), 4 DA3 (in), 5 RY1 (out), 6 RY2 (out), 7 DA4 (in), 8 RY3 (out), 9 DA5 (in), 10 GND (power), 11 VSS (power), 12 DY5 (out), 13 RA3 (in), 14 DY4 (out), 15 RA2 (in), 16 RA1 (in), 17 DY3 (out), 18 DY2 (out), 19 DY1 (out), 20 VDD (power)

## SN75LP196DWRG4
designator U?
Low-Power Multiple RS-232 Driver and Receiver, 0 to 70 degC, 20-Pin  SOIC (DW),  Green (RoHS & no Sb/Br); Drivers Per Package: 5; Receivers Per Package: 3; Supply Voltage(s)(V): +/-12.0 & 5.0; ESD HBM(kV): +/-15; ICC(Max)(mA): +/-0.8 & 1; RS-232: TRUE; DatasheetVersion: SLLS294A; PackageVersion: revG, Jan-2011; PackageReference: DW20; PackageDescription: 20-Pin Plastic Small Outline Integrated Circuit, 12.8 x 7.5 mm, Pitch 1.27 mm Pitch; SubFamily: RS-232; ComponentLink1Description: Manufacturer URL; ComponentLink1URL: www.ti.com; ComponentLink2Description: Datasheet; ComponentLink2URL: http://www.ti.com/general/docs/lit/getliterature.tsp?genericPartNumber=SN75LP196&fileType=pdf; ComponentLink3Description: Package Specification; ComponentLink3URL: http://www.ti.com/litv/pdf/mpds173a
footprint TI-DW20_N (SOIC, 20-Leads, Body 12.8x7.5mm, Pitch 1.27mm, IPC Medium Density)
footprint TI-DW20_L (SOIC, 20-Leads, Body 12.8x7.5mm, Pitch 1.27mm, IPC High Density)
footprint TI-DW20_M (SOIC, 20-Leads, Body 12.8x7.5mm, Pitch 1.27mm, IPC Low Density)
pins: 1 VCC (power), 2 DA1 (in), 3 DA2 (in), 4 DA3 (in), 5 RY1 (out), 6 RY2 (out), 7 DA4 (in), 8 RY3 (out), 9 DA5 (in), 10 GND (power), 11 VSS (power), 12 DY5 (out), 13 RA3 (in), 14 DY4 (out), 15 RA2 (in), 16 RA1 (in), 17 DY3 (out), 18 DY2 (out), 19 DY1 (out), 20 VDD (power)

## SN75LP1185DBR
designator U?
Low-Power Multiple RS-232 Driver and Receiver,  0 to 70 degC, 20-Pin  SSOP (DB),  Green (RoHS & no Sb/Br); Drivers Per Package: 3; Receivers Per Package: 5; Supply Voltage(s)(V): +/-12.0 & 5.0; ESD HBM(kV): +/-15; ICC(Max)(mA): +0.8/-0.625 & 1; RS-232: TRUE; DatasheetVersion: SLLS335A; PackageVersion: revE, Dec-2001; PackageReference: DB20; PackageDescription: 20-Pin Plastic Small Outline Package, 7.2 x 5.3 mm Body, 0.65 mm Pitch; SubFamily: RS-232; ComponentLink1Description: Manufacturer URL; ComponentLink1URL: www.ti.com; ComponentLink2Description: Datasheet; ComponentLink2URL: http://www.ti.com/general/docs/lit/getliterature.tsp?genericPartNumber=SN75LP1185&fileType=pdf; ComponentLink3Description: Package Specification; ComponentLink3URL: http://www.ti.com/litv/pdf/msso002e
footprint TI-DB20_N (SOP, 20-Leads, Body 7.2x5.3mm, Pitch 0.65mm, IPC Medium Density)
footprint TI-DB20_L (SOP, 20-Leads, Body 7.2x5.3mm, Pitch 0.65mm, IPC High Density)
footprint TI-DB20_M (SOP, 20-Leads, Body 7.2x5.3mm, Pitch 0.65mm, IPC Low Density)
pins: 1 VDD (power), 2 RA1 (in), 3 RA2 (in), 4 RA3 (in), 5 DY1 (out), 6 DY2 (out), 7 RA4 (in), 8 DY3 (out), 9 RA5 (in), 10 VSS (power), 11 GND (power), 12 RY5 (out), 13 DA3 (in), 14 RY4 (out), 15 DA2 (in), 16 DA1 (in), 17 RY3 (out), 18 RY2 (out), 19 RY1 (out), 20 VCC (power)

## SN75LP1185DBRE4
designator U?
Low-Power Multiple RS-232 Driver and Receiver, 0 to 70 degC, 20-Pin  SSOP (DB),  Green (RoHS & no Sb/Br); Drivers Per Package: 3; Receivers Per Package: 5; Supply Voltage(s)(V): +/-12.0 & 5.0; ESD HBM(kV): +/-15; ICC(Max)(mA): +0.8/-0.625 & 1; RS-232: TRUE; DatasheetVersion: SLLS335A; PackageVersion: revE, Dec-2001; PackageReference: DB20; PackageDescription: 20-Pin Plastic Small Outline Package, 7.2 x 5.3 mm Body, 0.65 mm Pitch; SubFamily: RS-232; ComponentLink1Description: Manufacturer URL; ComponentLink1URL: www.ti.com; ComponentLink2Description: Datasheet; ComponentLink2URL: http://www.ti.com/general/docs/lit/getliterature.tsp?genericPartNumber=SN75LP1185&fileType=pdf; ComponentLink3Description: Package Specification; ComponentLink3URL: http://www.ti.com/litv/pdf/msso002e
footprint TI-DB20_N (SOP, 20-Leads, Body 7.2x5.3mm, Pitch 0.65mm, IPC Medium Density)
footprint TI-DB20_L (SOP, 20-Leads, Body 7.2x5.3mm, Pitch 0.65mm, IPC High Density)
footprint TI-DB20_M (SOP, 20-Leads, Body 7.2x5.3mm, Pitch 0.65mm, IPC Low Density)
pins: 1 VDD (power), 2 RA1 (in), 3 RA2 (in), 4 RA3 (in), 5 DY1 (out), 6 DY2 (out), 7 RA4 (in), 8 DY3 (out), 9 RA5 (in), 10 VSS (power), 11 GND (power), 12 RY5 (out), 13 DA3 (in), 14 RY4 (out), 15 DA2 (in), 16 DA1 (in), 17 RY3 (out), 18 RY2 (out), 19 RY1 (out), 20 VCC (power)

## SN75LP1185DBRG4
designator U?
Low-Power Multiple RS-232 Driver and Receiver, 0 to 70 degC, 20-Pin  SSOP (DB),  Green (RoHS & no Sb/Br); Drivers Per Package: 3; Receivers Per Package: 5; Supply Voltage(s)(V): +/-12.0 & 5.0; ESD HBM(kV): +/-15; ICC(Max)(mA): +0.8/-0.625 & 1; RS-232: TRUE; DatasheetVersion: SLLS335A; PackageVersion: revE, Dec-2001; PackageReference: DB20; PackageDescription: 20-Pin Plastic Small Outline Package, 7.2 x 5.3 mm Body, 0.65 mm Pitch; SubFamily: RS-232; ComponentLink1Description: Manufacturer URL; ComponentLink1URL: www.ti.com; ComponentLink2Description: Datasheet; ComponentLink2URL: http://www.ti.com/general/docs/lit/getliterature.tsp?genericPartNumber=SN75LP1185&fileType=pdf; ComponentLink3Description: Package Specification; ComponentLink3URL: http://www.ti.com/litv/pdf/msso002e
footprint TI-DB20_N (SOP, 20-Leads, Body 7.2x5.3mm, Pitch 0.65mm, IPC Medium Density)
footprint TI-DB20_L (SOP, 20-Leads, Body 7.2x5.3mm, Pitch 0.65mm, IPC High Density)
footprint TI-DB20_M (SOP, 20-Leads, Body 7.2x5.3mm, Pitch 0.65mm, IPC Low Density)
pins: 1 VDD (power), 2 RA1 (in), 3 RA2 (in), 4 RA3 (in), 5 DY1 (out), 6 DY2 (out), 7 RA4 (in), 8 DY3 (out), 9 RA5 (in), 10 VSS (power), 11 GND (power), 12 RY5 (out), 13 DA3 (in), 14 RY4 (out), 15 DA2 (in), 16 DA1 (in), 17 RY3 (out), 18 RY2 (out), 19 RY1 (out), 20 VCC (power)

## SN75LP1185DW
designator U?
Low-Power Multiple RS-232 Driver and Receiver, 0 to 70 degC, 20-Pin  SOIC (DW),  Green (RoHS & no Sb/Br); Drivers Per Package: 3; Receivers Per Package: 5; Supply Voltage(s)(V): +/-12.0 & 5.0; ESD HBM(kV): +/-15; ICC(Max)(mA): +0.8/-0.625 & 1; RS-232: TRUE; DatasheetVersion: SLLS335A; PackageVersion: revG, Jan-2011; PackageReference: DW20; PackageDescription: 20-Pin Plastic Small Outline Integrated Circuit, 12.8 x 7.5 mm, Pitch 1.27 mm Pitch; SubFamily: RS-232; ComponentLink1Description: Manufacturer URL; ComponentLink1URL: www.ti.com; ComponentLink2Description: Datasheet; ComponentLink2URL: http://www.ti.com/general/docs/lit/getliterature.tsp?genericPartNumber=SN75LP1185&fileType=pdf; ComponentLink3Description: Package Specification; ComponentLink3URL: http://www.ti.com/litv/pdf/mpds173a
footprint TI-DW20_N (SOIC, 20-Leads, Body 12.8x7.5mm, Pitch 1.27mm, IPC Medium Density)
footprint TI-DW20_L (SOIC, 20-Leads, Body 12.8x7.5mm, Pitch 1.27mm, IPC High Density)
footprint TI-DW20_M (SOIC, 20-Leads, Body 12.8x7.5mm, Pitch 1.27mm, IPC Low Density)
pins: 1 VDD (power), 2 RA1 (in), 3 RA2 (in), 4 RA3 (in), 5 DY1 (out), 6 DY2 (out), 7 RA4 (in), 8 DY3 (out), 9 RA5 (in), 10 VSS (power), 11 GND (power), 12 RY5 (out), 13 DA3 (in), 14 RY4 (out), 15 DA2 (in), 16 DA1 (in), 17 RY3 (out), 18 RY2 (out), 19 RY1 (out), 20 VCC (power)

## SN75LP1185DWE4
designator U?
Low-Power Multiple RS-232 Driver and Receiver, 0 to 70 degC, 20-Pin  SOIC (DW),  Green (RoHS & no Sb/Br); Drivers Per Package: 3; Receivers Per Package: 5; Supply Voltage(s)(V): +/-12.0 & 5.0; ESD HBM(kV): +/-15; ICC(Max)(mA): +0.8/-0.625 & 1; RS-232: TRUE; DatasheetVersion: SLLS335A; PackageVersion: revG, Jan-2011; PackageReference: DW20; PackageDescription: 20-Pin Plastic Small Outline Integrated Circuit, 12.8 x 7.5 mm, Pitch 1.27 mm Pitch; SubFamily: RS-232; ComponentLink1Description: Manufacturer URL; ComponentLink1URL: www.ti.com; ComponentLink2Description: Datasheet; ComponentLink2URL: http://www.ti.com/general/docs/lit/getliterature.tsp?genericPartNumber=SN75LP1185&fileType=pdf; ComponentLink3Description: Package Specification; ComponentLink3URL: http://www.ti.com/litv/pdf/mpds173a
footprint TI-DW20_N (SOIC, 20-Leads, Body 12.8x7.5mm, Pitch 1.27mm, IPC Medium Density)
footprint TI-DW20_L (SOIC, 20-Leads, Body 12.8x7.5mm, Pitch 1.27mm, IPC High Density)
footprint TI-DW20_M (SOIC, 20-Leads, Body 12.8x7.5mm, Pitch 1.27mm, IPC Low Density)
pins: 1 VDD (power), 2 RA1 (in), 3 RA2 (in), 4 RA3 (in), 5 DY1 (out), 6 DY2 (out), 7 RA4 (in), 8 DY3 (out), 9 RA5 (in), 10 VSS (power), 11 GND (power), 12 RY5 (out), 13 DA3 (in), 14 RY4 (out), 15 DA2 (in), 16 DA1 (in), 17 RY3 (out), 18 RY2 (out), 19 RY1 (out), 20 VCC (power)

## SN75LP1185DWG4
designator U?
Low-Power Multiple RS-232 Driver and Receiver, 0 to 70 degC, 20-Pin  SOIC (DW),  Green (RoHS & no Sb/Br); Drivers Per Package: 3; Receivers Per Package: 5; Supply Voltage(s)(V): +/-12.0 & 5.0; ESD HBM(kV): +/-15; ICC(Max)(mA): +0.8/-0.625 & 1; RS-232: TRUE; DatasheetVersion: SLLS335A; PackageVersion: revG, Jan-2011; PackageReference: DW20; PackageDescription: 20-Pin Plastic Small Outline Integrated Circuit, 12.8 x 7.5 mm, Pitch 1.27 mm Pitch; SubFamily: RS-232; ComponentLink1Description: Manufacturer URL; ComponentLink1URL: www.ti.com; ComponentLink2Description: Datasheet; ComponentLink2URL: http://www.ti.com/general/docs/lit/getliterature.tsp?genericPartNumber=SN75LP1185&fileType=pdf; ComponentLink3Description: Package Specification; ComponentLink3URL: http://www.ti.com/litv/pdf/mpds173a
footprint TI-DW20_N (SOIC, 20-Leads, Body 12.8x7.5mm, Pitch 1.27mm, IPC Medium Density)
footprint TI-DW20_L (SOIC, 20-Leads, Body 12.8x7.5mm, Pitch 1.27mm, IPC High Density)
footprint TI-DW20_M (SOIC, 20-Leads, Body 12.8x7.5mm, Pitch 1.27mm, IPC Low Density)
pins: 1 VDD (power), 2 RA1 (in), 3 RA2 (in), 4 RA3 (in), 5 DY1 (out), 6 DY2 (out), 7 RA4 (in), 8 DY3 (out), 9 RA5 (in), 10 VSS (power), 11 GND (power), 12 RY5 (out), 13 DA3 (in), 14 RY4 (out), 15 DA2 (in), 16 DA1 (in), 17 RY3 (out), 18 RY2 (out), 19 RY1 (out), 20 VCC (power)

## SN75LP1185DWR
designator U?
Low-Power Multiple RS-232 Driver and Receiver, 0 to 70 degC, 20-Pin  SOIC (DW),  Green (RoHS & no Sb/Br); Drivers Per Package: 3; Receivers Per Package: 5; Supply Voltage(s)(V): +/-12.0 & 5.0; ESD HBM(kV): +/-15; ICC(Max)(mA): +0.8/-0.625 & 1; RS-232: TRUE; DatasheetVersion: SLLS335A; PackageVersion: revG, Jan-2011; PackageReference: DW20; PackageDescription: 20-Pin Plastic Small Outline Integrated Circuit, 12.8 x 7.5 mm, Pitch 1.27 mm Pitch; SubFamily: RS-232; ComponentLink1Description: Manufacturer URL; ComponentLink1URL: www.ti.com; ComponentLink2Description: Datasheet; ComponentLink2URL: http://www.ti.com/general/docs/lit/getliterature.tsp?genericPartNumber=SN75LP1185&fileType=pdf; ComponentLink3Description: Package Specification; ComponentLink3URL: http://www.ti.com/litv/pdf/mpds173a
footprint TI-DW20_N (SOIC, 20-Leads, Body 12.8x7.5mm, Pitch 1.27mm, IPC Medium Density)
footprint TI-DW20_L (SOIC, 20-Leads, Body 12.8x7.5mm, Pitch 1.27mm, IPC High Density)
footprint TI-DW20_M (SOIC, 20-Leads, Body 12.8x7.5mm, Pitch 1.27mm, IPC Low Density)
pins: 1 VDD (power), 2 RA1 (in), 3 RA2 (in), 4 RA3 (in), 5 DY1 (out), 6 DY2 (out), 7 RA4 (in), 8 DY3 (out), 9 RA5 (in), 10 VSS (power), 11 GND (power), 12 RY5 (out), 13 DA3 (in), 14 RY4 (out), 15 DA2 (in), 16 DA1 (in), 17 RY3 (out), 18 RY2 (out), 19 RY1 (out), 20 VCC (power)

## SN75LP1185DWRE4
designator U?
Low-Power Multiple RS-232 Driver and Receiver, 0 to 70 degC, 20-Pin  SOIC (DW),  Green (RoHS & no Sb/Br); Drivers Per Package: 3; Receivers Per Package: 5; Supply Voltage(s)(V): +/-12.0 & 5.0; ESD HBM(kV): +/-15; ICC(Max)(mA): +0.8/-0.625 & 1; RS-232: TRUE; DatasheetVersion: SLLS335A; PackageVersion: revG, Jan-2011; PackageReference: DW20; PackageDescription: 20-Pin Plastic Small Outline Integrated Circuit, 12.8 x 7.5 mm, Pitch 1.27 mm Pitch; SubFamily: RS-232; ComponentLink1Description: Manufacturer URL; ComponentLink1URL: www.ti.com; ComponentLink2Description: Datasheet; ComponentLink2URL: http://www.ti.com/general/docs/lit/getliterature.tsp?genericPartNumber=SN75LP1185&fileType=pdf; ComponentLink3Description: Package Specification; ComponentLink3URL: http://www.ti.com/litv/pdf/mpds173a
footprint TI-DW20_N (SOIC, 20-Leads, Body 12.8x7.5mm, Pitch 1.27mm, IPC Medium Density)
footprint TI-DW20_L (SOIC, 20-Leads, Body 12.8x7.5mm, Pitch 1.27mm, IPC High Density)
footprint TI-DW20_M (SOIC, 20-Leads, Body 12.8x7.5mm, Pitch 1.27mm, IPC Low Density)
pins: 1 VDD (power), 2 RA1 (in), 3 RA2 (in), 4 RA3 (in), 5 DY1 (out), 6 DY2 (out), 7 RA4 (in), 8 DY3 (out), 9 RA5 (in), 10 VSS (power), 11 GND (power), 12 RY5 (out), 13 DA3 (in), 14 RY4 (out), 15 DA2 (in), 16 DA1 (in), 17 RY3 (out), 18 RY2 (out), 19 RY1 (out), 20 VCC (power)

## SN75LP1185DWRG4
designator U?
Low-Power Multiple RS-232 Driver and Receiver, 0 to 70 degC, 20-Pin  SOIC (DW),  Green (RoHS & no Sb/Br); Drivers Per Package: 3; Receivers Per Package: 5; Supply Voltage(s)(V): +/-12.0 & 5.0; ESD HBM(kV): +/-15; ICC(Max)(mA): +0.8/-0.625 & 1; RS-232: TRUE; DatasheetVersion: SLLS335A; PackageVersion: revG, Jan-2011; PackageReference: DW20; PackageDescription: 20-Pin Plastic Small Outline Integrated Circuit, 12.8 x 7.5 mm, Pitch 1.27 mm Pitch; SubFamily: RS-232; ComponentLink1Description: Manufacturer URL; ComponentLink1URL: www.ti.com; ComponentLink2Description: Datasheet; ComponentLink2URL: http://www.ti.com/general/docs/lit/getliterature.tsp?genericPartNumber=SN75LP1185&fileType=pdf; ComponentLink3Description: Package Specification; ComponentLink3URL: http://www.ti.com/litv/pdf/mpds173a
footprint TI-DW20_N (SOIC, 20-Leads, Body 12.8x7.5mm, Pitch 1.27mm, IPC Medium Density)
footprint TI-DW20_L (SOIC, 20-Leads, Body 12.8x7.5mm, Pitch 1.27mm, IPC High Density)
footprint TI-DW20_M (SOIC, 20-Leads, Body 12.8x7.5mm, Pitch 1.27mm, IPC Low Density)
pins: 1 VDD (power), 2 RA1 (in), 3 RA2 (in), 4 RA3 (in), 5 DY1 (out), 6 DY2 (out), 7 RA4 (in), 8 DY3 (out), 9 RA5 (in), 10 VSS (power), 11 GND (power), 12 RY5 (out), 13 DA3 (in), 14 RY4 (out), 15 DA2 (in), 16 DA1 (in), 17 RY3 (out), 18 RY2 (out), 19 RY1 (out), 20 VCC (power)

## SN75LP1185N
designator U?
Low-Power Multiple RS-232 Driver and Receiver, 0 to 70 degC, 20-Pin  PDIP (N),  Pb-Free (RoHS); Drivers Per Package: 3; Receivers Per Package: 5; Supply Voltage(s)(V): +/-12.0 & 5.0; ESD HBM(kV): +/-15; ICC(Max)(mA): +0.8/-0.625 & 1; RS-232: TRUE; DatasheetVersion: SLLS335A; PackageVersion: revE, Dec-2002; PackageReference: N20; PackageDescription: 20-Pin Plastic Dual-In-Line Package, Row Spacing 7.62 mm, Pitch 2.54 mm; SubFamily: RS-232; ComponentLink1Description: Manufacturer URL; ComponentLink1URL: www.ti.com; ComponentLink2Description: Datasheet; ComponentLink2URL: http://www.ti.com/general/docs/lit/getliterature.tsp?genericPartNumber=SN75LP1185&fileType=pdf; ComponentLink3Description: Package Specification; ComponentLink3URL: http://www.ti.com/litv/pdf/mpdi002c
footprint TI-N20 (DIP, 20-Leads, Row Spacing 7.62mm, Pitch 2.54mm, Body 25.4x6.4mm)
pins: 1 VDD (power), 2 RA1 (in), 3 RA2 (in), 4 RA3 (in), 5 DY1 (out), 6 DY2 (out), 7 RA4 (in), 8 DY3 (out), 9 RA5 (in), 10 VSS (power), 11 GND (power), 12 RY5 (out), 13 DA3 (in), 14 RY4 (out), 15 DA2 (in), 16 DA1 (in), 17 RY3 (out), 18 RY2 (out), 19 RY1 (out), 20 VCC (power)

## SN75LP1185NE4
designator U?
Low-Power Multiple RS-232 Driver and Receiver, 0 to 70 degC, 20-Pin  PDIP (N),  Pb-Free (RoHS); Drivers Per Package: 3; Receivers Per Package: 5; Supply Voltage(s)(V): +/-12.0 & 5.0; ESD HBM(kV): +/-15; ICC(Max)(mA): +0.8/-0.625 & 1; RS-232: TRUE; DatasheetVersion: SLLS335A; PackageVersion: revE, Dec-2002; PackageReference: N20; PackageDescription: 20-Pin Plastic Dual-In-Line Package, Row Spacing 7.62 mm, Pitch 2.54 mm; SubFamily: RS-232; ComponentLink1Description: Manufacturer URL; ComponentLink1URL: www.ti.com; ComponentLink2Description: Datasheet; ComponentLink2URL: http://www.ti.com/general/docs/lit/getliterature.tsp?genericPartNumber=SN75LP1185&fileType=pdf; ComponentLink3Description: Package Specification; ComponentLink3URL: http://www.ti.com/litv/pdf/mpdi002c
footprint TI-N20 (DIP, 20-Leads, Row Spacing 7.62mm, Pitch 2.54mm, Body 25.4x6.4mm)
pins: 1 VDD (power), 2 RA1 (in), 3 RA2 (in), 4 RA3 (in), 5 DY1 (out), 6 DY2 (out), 7 RA4 (in), 8 DY3 (out), 9 RA5 (in), 10 VSS (power), 11 GND (power), 12 RY5 (out), 13 DA3 (in), 14 RY4 (out), 15 DA2 (in), 16 DA1 (in), 17 RY3 (out), 18 RY2 (out), 19 RY1 (out), 20 VCC (power)

## SN75LPE185DWR
designator U?
Low-Power MultiIple RS-232 Driver / Receiver with enable, 0 to 70 degC, 24-Pin SOIC (DW), Green (RoHS & no Sb/Br); Drivers Per Package: 3; Receivers Per Package: 5; Supply Voltage(s)(V): +/-12.0 & 5.0; ESD HBM(kV): +/-15; ICC(Max)(mA): +0.8/-0.625 & 1; RS-232: TRUE; DatasheetVersion: SLLS256F; PackageVersion: revG, Jan-2011; PackageReference: DW24; PackageDescription: 24-Pin Plastic Small Outline Integrated Circuit, 15.4 x 7.5 mm, Pitch 1.27 mm Pitch; SubFamily: RS-232; ComponentLink1Description: Manufacturer URL; ComponentLink1URL: www.ti.com; ComponentLink2Description: Datasheet; ComponentLink2URL: http://www.ti.com/general/docs/lit/getliterature.tsp?genericPartNumber=SN75LPE185&fileType=pdf; ComponentLink3Description: Package Specification; ComponentLink3URL: http://www.ti.com/litv/pdf/mpds174a
footprint TI-DW24_N (SOIC, 24-Leads, Body 15.4x7.5mm, Pitch 1.27mm, IPC Medium Density)
footprint TI-DW24_L (SOIC, 24-Leads, Body 15.4x7.5mm, Pitch 1.27mm, IPC High Density)
footprint TI-DW24_M (SOIC, 24-Leads, Body 15.4x7.5mm, Pitch 1.27mm, IPC Low Density)
pins: 1 VDD (power), 2 RA1 (in), 3 RA2 (in), 4 RA3 (in), 5 DY1 (hiz), 6 DY2 (hiz), 7 RA4 (in), 8 DY3 (hiz), 9 RA5 (in), 10 VSS (power), 11 ~{EN} (in), 12 MODE (in), 13 NC, 14 NC, 15 GND (power), 16 RY5 (hiz), 17 DA3 (in), 18 RY4 (hiz), 19 DA2 (in), 20 DA1 (in), 21 RY3 (hiz), 22 RY2 (hiz), 23 RY1 (hiz), 24 VCC (power)

## SN75LPE185DWRE4
designator U?
Low-Power MultiIple RS-232 Driver / Receiver with enable, 0 to 70 degC, 24-Pin SOIC (DW), Green (RoHS & no Sb/Br); Drivers Per Package: 3; Receivers Per Package: 5; Supply Voltage(s)(V): +/-12.0 & 5.0; ESD HBM(kV): +/-15; ICC(Max)(mA): +0.8/-0.625 & 1; RS-232: TRUE; DatasheetVersion: SLLS256F; PackageVersion: revG, Jan-2011; PackageReference: DW24; PackageDescription: 24-Pin Plastic Small Outline Integrated Circuit, 15.4 x 7.5 mm, Pitch 1.27 mm Pitch; SubFamily: RS-232; ComponentLink1Description: Manufacturer URL; ComponentLink1URL: www.ti.com; ComponentLink2Description: Datasheet; ComponentLink2URL: http://www.ti.com/general/docs/lit/getliterature.tsp?genericPartNumber=SN75LPE185&fileType=pdf; ComponentLink3Description: Package Specification; ComponentLink3URL: http://www.ti.com/litv/pdf/mpds174a
footprint TI-DW24_N (SOIC, 24-Leads, Body 15.4x7.5mm, Pitch 1.27mm, IPC Medium Density)
footprint TI-DW24_L (SOIC, 24-Leads, Body 15.4x7.5mm, Pitch 1.27mm, IPC High Density)
footprint TI-DW24_M (SOIC, 24-Leads, Body 15.4x7.5mm, Pitch 1.27mm, IPC Low Density)
pins: 1 VDD (power), 2 RA1 (in), 3 RA2 (in), 4 RA3 (in), 5 DY1 (hiz), 6 DY2 (hiz), 7 RA4 (in), 8 DY3 (hiz), 9 RA5 (in), 10 VSS (power), 11 ~{EN} (in), 12 MODE (in), 13 NC, 14 NC, 15 GND (power), 16 RY5 (hiz), 17 DA3 (in), 18 RY4 (hiz), 19 DA2 (in), 20 DA1 (in), 21 RY3 (hiz), 22 RY2 (hiz), 23 RY1 (hiz), 24 VCC (power)

## SN75LPE185DWRG4
designator U?
Low-Power MultiIple RS-232 Driver / Receiver with enable, 0 to 70 degC, 24-Pin SOIC (DW), Green (RoHS & no Sb/Br); Drivers Per Package: 3; Receivers Per Package: 5; Supply Voltage(s)(V): +/-12.0 & 5.0; ESD HBM(kV): +/-15; ICC(Max)(mA): +0.8/-0.625 & 1; RS-232: TRUE; DatasheetVersion: SLLS256F; PackageVersion: revG, Jan-2011; PackageReference: DW24; PackageDescription: 24-Pin Plastic Small Outline Integrated Circuit, 15.4 x 7.5 mm, Pitch 1.27 mm Pitch; SubFamily: RS-232; ComponentLink1Description: Manufacturer URL; ComponentLink1URL: www.ti.com; ComponentLink2Description: Datasheet; ComponentLink2URL: http://www.ti.com/general/docs/lit/getliterature.tsp?genericPartNumber=SN75LPE185&fileType=pdf; ComponentLink3Description: Package Specification; ComponentLink3URL: http://www.ti.com/litv/pdf/mpds174a
footprint TI-DW24_N (SOIC, 24-Leads, Body 15.4x7.5mm, Pitch 1.27mm, IPC Medium Density)
footprint TI-DW24_L (SOIC, 24-Leads, Body 15.4x7.5mm, Pitch 1.27mm, IPC High Density)
footprint TI-DW24_M (SOIC, 24-Leads, Body 15.4x7.5mm, Pitch 1.27mm, IPC Low Density)
pins: 1 VDD (power), 2 RA1 (in), 3 RA2 (in), 4 RA3 (in), 5 DY1 (hiz), 6 DY2 (hiz), 7 RA4 (in), 8 DY3 (hiz), 9 RA5 (in), 10 VSS (power), 11 ~{EN} (in), 12 MODE (in), 13 NC, 14 NC, 15 GND (power), 16 RY5 (hiz), 17 DA3 (in), 18 RY4 (hiz), 19 DA2 (in), 20 DA1 (in), 21 RY3 (hiz), 22 RY2 (hiz), 23 RY1 (hiz), 24 VCC (power)

## SN75LPE185NT
designator U?
Low-Power MultiIple RS-232 Driver / Receiver with enable, 0 to 70 degC, 24-Pin PDIP (NT), Pb-Free (RoHS); Drivers Per Package: 3; Receivers Per Package: 5; Supply Voltage(s)(V): +/-12.0 & 5.0; ESD HBM(kV): +/-15; ICC(Max)(mA): +0.8/-0.625 & 1; RS-232: TRUE; DatasheetVersion: SLLS256F; PackageVersion: revC, Apr-2009; PackageReference: NT24; PackageDescription: 24-Pin Plastic Dual-In-Line Package, Row Spacing 7.62 mm, Pitch 2.54 mm; SubFamily: RS-232; ComponentLink1Description: Manufacturer URL; ComponentLink1URL: www.ti.com; ComponentLink2Description: Datasheet; ComponentLink2URL: http://www.ti.com/general/docs/lit/getliterature.tsp?genericPartNumber=SN75LPE185&fileType=pdf; ComponentLink3Description: Package Specification; ComponentLink3URL: http://www.ti.com/litv/pdf/mpdi004a
footprint TI-NT24 (DIP, 24-Leads, Row Spacing 7.62mm, Pitch 2.54mm, Body 31.6x6.7mm)
pins: 1 VDD (power), 2 RA1 (in), 3 RA2 (in), 4 RA3 (in), 5 DY1 (hiz), 6 DY2 (hiz), 7 RA4 (in), 8 DY3 (hiz), 9 RA5 (in), 10 VSS (power), 11 ~{EN} (in), 12 MODE (in), 13 NC, 14 NC, 15 GND (power), 16 RY5 (hiz), 17 DA3 (in), 18 RY4 (hiz), 19 DA2 (in), 20 DA1 (in), 21 RY3 (hiz), 22 RY2 (hiz), 23 RY1 (hiz), 24 VCC (power)

## SN75LPE185NTE4
designator U?
Low-Power MultiIple RS-232 Driver / Receiver with enable, 0 to 70 degC, 24-Pin PDIP (NT), Pb-Free (RoHS); Drivers Per Package: 3; Receivers Per Package: 5; Supply Voltage(s)(V): +/-12.0 & 5.0; ESD HBM(kV): +/-15; ICC(Max)(mA): +0.8/-0.625 & 1; RS-232: TRUE; DatasheetVersion: SLLS256F; PackageVersion: revC, Apr-2009; PackageReference: NT24; PackageDescription: 24-Pin Plastic Dual-In-Line Package, Row Spacing 7.62 mm, Pitch 2.54 mm; SubFamily: RS-232; ComponentLink1Description: Manufacturer URL; ComponentLink1URL: www.ti.com; ComponentLink2Description: Datasheet; ComponentLink2URL: http://www.ti.com/general/docs/lit/getliterature.tsp?genericPartNumber=SN75LPE185&fileType=pdf; ComponentLink3Description: Package Specification; ComponentLink3URL: http://www.ti.com/litv/pdf/mpdi004a
footprint TI-NT24 (DIP, 24-Leads, Row Spacing 7.62mm, Pitch 2.54mm, Body 31.6x6.7mm)
pins: 1 VDD (power), 2 RA1 (in), 3 RA2 (in), 4 RA3 (in), 5 DY1 (hiz), 6 DY2 (hiz), 7 RA4 (in), 8 DY3 (hiz), 9 RA5 (in), 10 VSS (power), 11 ~{EN} (in), 12 MODE (in), 13 NC, 14 NC, 15 GND (power), 16 RY5 (hiz), 17 DA3 (in), 18 RY4 (hiz), 19 DA2 (in), 20 DA1 (in), 21 RY3 (hiz), 22 RY2 (hiz), 23 RY1 (hiz), 24 VCC (power)

## SN75LV4737ADB
designator U?
3.3-V / 5-V Multichannel RS-232 Line Driver / Receiver, 0 to 70 degC, 28-Pin SSOP (DB), Green (RoHS & no Sb/Br); Drivers Per Package: 3; Receivers Per Package: 5; Supply Voltage(s)(V): 3.3 or 5.0; ESD HBM(kV): +/-4; ICC(Max)(mA): 20.7; Single Supply: TRUE; DatasheetVersion: SLLS178D; PackageVersion: revE, Dec-2001; PackageReference: DB28; PackageDescription: 28-Pin Plastic Small Outline Package, 10.2 x 5.3 mm Body, 0.65 mm Pitch; SubFamily: RS-232; RS-232: TRUE; ComponentLink1Description: Manufacturer URL; ComponentLink1URL: www.ti.com; ComponentLink2Description: Datasheet; ComponentLink2URL: http://www.ti.com/general/docs/lit/getliterature.tsp?genericPartNumber=SN75LV4737A&fileType=pdf; ComponentLink3Description: Package Specification; ComponentLink3URL: http://www.ti.com/litv/pdf/msso002e
footprint TI-DB28_N (SOP, 28-Leads, Body 10.2x5.3mm, Pitch 0.65mm, IPC Medium Density)
footprint TI-DB28_L (SOP, 28-Leads, Body 10.2x5.3mm, Pitch 0.65mm, IPC High Density)
footprint TI-DB28_M (SOP, 28-Leads, Body 10.2x5.3mm, Pitch 0.65mm, IPC Low Density)
pins: 1 VDD (power), 2 C2+, 3 VCC (power), 4 C2-, 5 ~{EN} (in), 6 C1+, 7 DIN1 (in), 8 DIN2 (in), 9 DIN3 (in), 10 ROUT1 (hiz), 11 ROUT2 (hiz), 12 ROUT3 (hiz), 13 ROUT4 (hiz), 14 ROUT5 (hiz), 15 RIN5 (in), 16 RIN4 (in), 17 RIN3 (in), 18 RIN2 (in), 19 RIN1 (in), 20 DOUT3 (hiz), 21 DOUT2 (hiz), 22 DOUT1 (hiz), 23 STBY (in), 24 C1-, 25 VSS (power), 26 C3-, 27 GND (power), 28 C3+

## SN75LV4737ADBE4
designator U?
3.3-V / 5-V Multichannel RS-232 Line Driver / Receiver, 0 to 70 degC, 28-Pin SSOP (DB), Green (RoHS & no Sb/Br); Drivers Per Package: 3; Receivers Per Package: 5; Supply Voltage(s)(V): 3.3 or 5.0; ESD HBM(kV): +/-4; ICC(Max)(mA): 20.7; Single Supply: TRUE; DatasheetVersion: SLLS178D; PackageVersion: revE, Dec-2001; PackageReference: DB28; PackageDescription: 28-Pin Plastic Small Outline Package, 10.2 x 5.3 mm Body, 0.65 mm Pitch; SubFamily: RS-232; RS-232: TRUE; ComponentLink1Description: Manufacturer URL; ComponentLink1URL: www.ti.com; ComponentLink2Description: Datasheet; ComponentLink2URL: http://www.ti.com/general/docs/lit/getliterature.tsp?genericPartNumber=SN75LV4737A&fileType=pdf; ComponentLink3Description: Package Specification; ComponentLink3URL: http://www.ti.com/litv/pdf/msso002e
footprint TI-DB28_N (SOP, 28-Leads, Body 10.2x5.3mm, Pitch 0.65mm, IPC Medium Density)
footprint TI-DB28_L (SOP, 28-Leads, Body 10.2x5.3mm, Pitch 0.65mm, IPC High Density)
footprint TI-DB28_M (SOP, 28-Leads, Body 10.2x5.3mm, Pitch 0.65mm, IPC Low Density)
pins: 1 VDD (power), 2 C2+, 3 VCC (power), 4 C2-, 5 ~{EN} (in), 6 C1+, 7 DIN1 (in), 8 DIN2 (in), 9 DIN3 (in), 10 ROUT1 (hiz), 11 ROUT2 (hiz), 12 ROUT3 (hiz), 13 ROUT4 (hiz), 14 ROUT5 (hiz), 15 RIN5 (in), 16 RIN4 (in), 17 RIN3 (in), 18 RIN2 (in), 19 RIN1 (in), 20 DOUT3 (hiz), 21 DOUT2 (hiz), 22 DOUT1 (hiz), 23 STBY (in), 24 C1-, 25 VSS (power), 26 C3-, 27 GND (power), 28 C3+

## SN75LV4737ADBG4
designator U?
3.3-V / 5-V Multichannel RS-232 Line Driver / Receiver, 0 to 70 degC, 28-Pin SSOP (DB), Green (RoHS & no Sb/Br); Drivers Per Package: 3; Receivers Per Package: 5; Supply Voltage(s)(V): 3.3 or 5.0; ESD HBM(kV): +/-4; ICC(Max)(mA): 20.7; Single Supply: TRUE; DatasheetVersion: SLLS178D; PackageVersion: revE, Dec-2001; PackageReference: DB28; PackageDescription: 28-Pin Plastic Small Outline Package, 10.2 x 5.3 mm Body, 0.65 mm Pitch; SubFamily: RS-232; RS-232: TRUE; ComponentLink1Description: Manufacturer URL; ComponentLink1URL: www.ti.com; ComponentLink2Description: Datasheet; ComponentLink2URL: http://www.ti.com/general/docs/lit/getliterature.tsp?genericPartNumber=SN75LV4737A&fileType=pdf; ComponentLink3Description: Package Specification; ComponentLink3URL: http://www.ti.com/litv/pdf/msso002e
footprint TI-DB28_N (SOP, 28-Leads, Body 10.2x5.3mm, Pitch 0.65mm, IPC Medium Density)
footprint TI-DB28_L (SOP, 28-Leads, Body 10.2x5.3mm, Pitch 0.65mm, IPC High Density)
footprint TI-DB28_M (SOP, 28-Leads, Body 10.2x5.3mm, Pitch 0.65mm, IPC Low Density)
pins: 1 VDD (power), 2 C2+, 3 VCC (power), 4 C2-, 5 ~{EN} (in), 6 C1+, 7 DIN1 (in), 8 DIN2 (in), 9 DIN3 (in), 10 ROUT1 (hiz), 11 ROUT2 (hiz), 12 ROUT3 (hiz), 13 ROUT4 (hiz), 14 ROUT5 (hiz), 15 RIN5 (in), 16 RIN4 (in), 17 RIN3 (in), 18 RIN2 (in), 19 RIN1 (in), 20 DOUT3 (hiz), 21 DOUT2 (hiz), 22 DOUT1 (hiz), 23 STBY (in), 24 C1-, 25 VSS (power), 26 C3-, 27 GND (power), 28 C3+